# EAGLE library part STKPWRTOP_3R (library con-samtec-ips1)
Neo custom samtec 30 pin connector
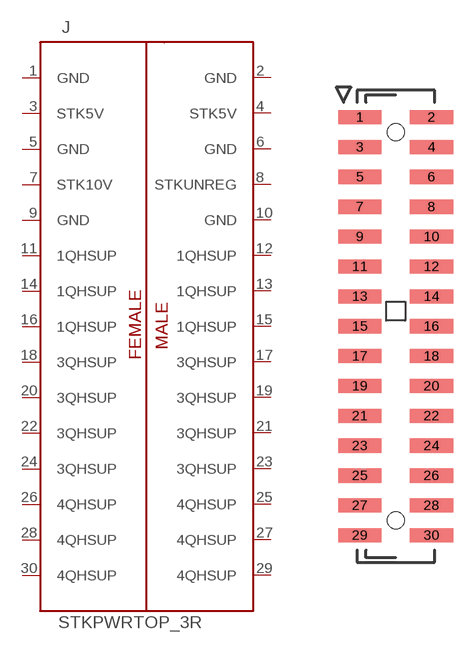
[diagram p22: symbol with the pads of LS2-115-02-CUSTOM; footprint LS2-115-02-CUSTOM]

Designator prefix J

## STKPWRTOP_3R  [LS2-115-02-CUSTOM]
1  GND  pas
2  GND  pas
3  STK5V  pas
4  STK5V  pas
5  GND  pas
6  GND  pas
7  STK10V  pas
8  STKUNREG  pas
9  GND  pas
10  GND  pas
11  1QHSUP  pas
12  1QHSUP  pas
13  1QHSUP  pas
14  1QHSUP  pas
15  1QHSUP  pas
16  1QHSUP  pas
17  3QHSUP  pas
18  3QHSUP  pas
19  3QHSUP  pas
20  3QHSUP  pas
21  3QHSUP  pas
22  3QHSUP  pas
23  3QHSUP  pas
24  3QHSUP  pas
25  4QHSUP  pas
26  4QHSUP  pas
27  4QHSUP  pas
28  4QHSUP  pas
29  4QHSUP  pas
30  4QHSUP  pas

## Footprint LS2-115-02-CUSTOM (pad centres in mm)
smd 2.9 x 0.95: 1 -2.4,14; 2 2.4,14; 3 -2.4,12; 4 2.4,12; 5 -2.4,10; 6 2.4,10; 7 -2.4,8; 8 2.4,8; 9 -2.4,6; 10 2.4,6; 11 -2.4,4; 12 2.4,4; 13 -2.4,2; 14 2.4,2; 15 -2.4,0; 16 2.4,0; 17 -2.4,-2; 18 2.4,-2; 19 -2.4,-4; 20 2.4,-4; 21 -2.4,-6; 22 2.4,-6; 23 -2.4,-8; 24 2.4,-8; 25 -2.4,-10; 26 2.4,-10; 27 -2.4,-12; 28 2.4,-12; 29 -2.4,-14; 30 2.4,-14
hole 1.143 at 0,13.005
hole 1.143 at 0,-13.005